# Altium footprint library Archim.PcbLib: 75 footprints (part 3 of 5)
Each footprint in its own frame and in the unit in brackets; x right, y up, seen from the top. Pads: shape width x height; smd on the part's side, far side on the other; paste and mask are expansions set on the pad; w line width, h text height; cw(c..) or ccw(c..) is an arc to the next point about the centre after c.
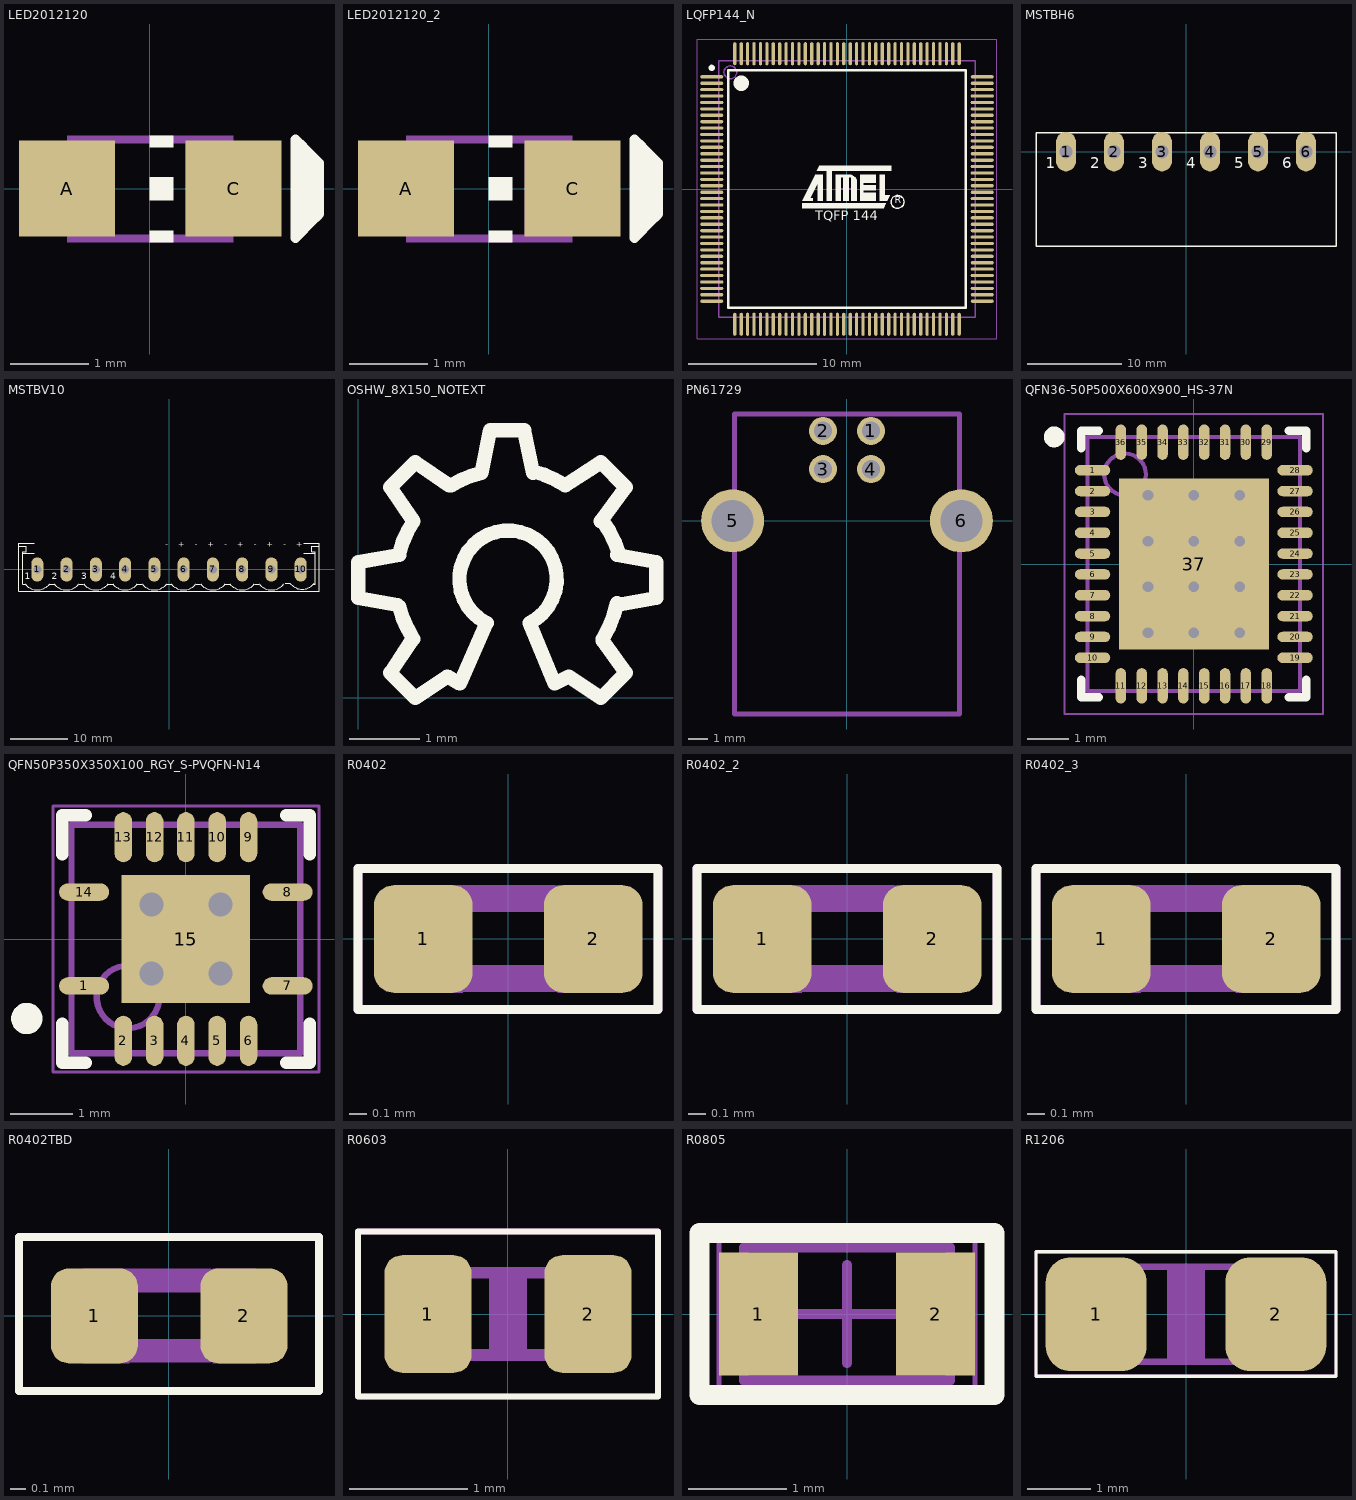
[diagram p2: the footprints below, top view; thin cyan lines are the x and y axes]

## LED2012120 [mil]
pads (2):
  rect 48x48 smd: A(-41.34,0) C(42,0)
Top Overlay:
  region: 0,5.9 0,-6 12,-6 12,5.9
  region: 0,-21 0,-27 12,-27 12,-21
  region: 0,26.57 0,20.67 12,20.67 12,26.57
  lines w5: 72.83,-24.61 80.71,-16.73 ; 72.83,-24.61 76.77,-20.67 76.77,20.67 72.83,24.61 ; 72.83,-24.61 72.83,24.61 ; 72.83,24.61 80.71,16.73 ; 80.71,-16.73 84.65,-12.8 84.65,12.8 80.71,16.73 ; 80.71,-16.73 80.71,16.73
Mechanical 8:
  region: -41.34,26.58 -41.34,-27 -17.72,-27 -17.72,26.57
  region: 18,26.58 18,-27 42,-27 42,26.58
  lines w4: -18.7,-25 18,-25 ; -17.72,24.61 18,24.61
3D body: height 11.81, standoff 0, extent -50,-25 50,25
3D body: height 27.56, standoff 0, extent -30,-25 30,25
3D body: height 15.75, standoff 0, extent 20,-10 35,10

## LED2012120_2 [mil]
pads (2):
  rect 48x48 smd: A(-41.34,0) C(42,0)
Top Overlay:
  region: 0,5.9 0,-6 12,-6 12,5.9
  region: 0,-21 0,-27 12,-27 12,-21
  region: 0,26.57 0,20.67 12,20.67 12,26.57
  lines w5: 72.83,-24.61 80.71,-16.73 ; 72.83,-24.61 76.77,-20.67 76.77,20.67 72.83,24.61 ; 72.83,-24.61 72.83,24.61 ; 72.83,24.61 80.71,16.73 ; 80.71,-16.73 84.65,-12.8 84.65,12.8 80.71,16.73 ; 80.71,-16.73 80.71,16.73
Mechanical 8:
  region: -41.34,26.58 -41.34,-27 -17.72,-27 -17.72,26.57
  region: 18,26.58 18,-27 42,-27 42,26.58
  lines w4: -18.7,-25 18,-25 ; -17.72,24.61 18,24.61
3D body: height 11.81, standoff 0, extent -50,-25 50,25
3D body: height 27.56, standoff 0, extent -30,-25 30,25
3D body: height 15.75, standoff 0, extent 20,-10 35,10

## LQFP144_N [mm] "Thin QFP, 144-Leads, Body 20x20mm, Pitch 0.5mm, IPC Medium Density"
height 1.6
pads (144):
  oval 1.8x0.249 smd: 1(-10.55,8.75) 2(-10.55,8.25) 3(-10.55,7.75) 4(-10.55,7.25) 5(-10.55,6.75) 6(-10.55,6.25) 7(-10.55,5.75) 8(-10.55,5.25) 9(-10.55,4.75) 10(-10.55,4.25) 11(-10.55,3.75) 12(-10.55,3.25) 13(-10.55,2.75) 14(-10.55,2.25) 15(-10.55,1.75) 16(-10.55,1.25) 17(-10.55,0.75) 18(-10.55,0.25) 19(-10.55,-0.25) 20(-10.55,-0.75) 21(-10.55,-1.25) 22(-10.55,-1.75) 23(-10.55,-2.25) 24(-10.55,-2.75) 25(-10.55,-3.25) 26(-10.55,-3.75) 27(-10.55,-4.25) 28(-10.55,-4.75) 29(-10.55,-5.25) 30(-10.55,-5.75) 31(-10.55,-6.25) 32(-10.55,-6.75) 33(-10.55,-7.25) 34(-10.55,-7.75) 35(-10.55,-8.25) 36(-10.55,-8.75) 73(10.55,-8.75) 74(10.55,-8.25) 75(10.55,-7.75) 76(10.55,-7.25) 77(10.55,-6.75) 78(10.55,-6.25) 79(10.55,-5.75) 80(10.55,-5.25) 81(10.55,-4.75) 82(10.55,-4.25) 83(10.55,-3.75) 84(10.55,-3.25) 85(10.55,-2.75) 86(10.55,-2.25) 87(10.55,-1.75) 88(10.55,-1.25) 89(10.55,-0.75) 90(10.55,-0.25) 91(10.55,0.25) 92(10.55,0.75) 93(10.55,1.25) 94(10.55,1.75) 95(10.55,2.25) 96(10.55,2.75) 97(10.55,3.25) 98(10.55,3.75) 99(10.55,4.25) 100(10.55,4.75) 101(10.55,5.25) 102(10.55,5.75) 103(10.55,6.25) 104(10.55,6.75) 105(10.55,7.25) 106(10.55,7.75) 107(10.55,8.25) 108(10.55,8.75)
  oval 0.249x1.8 smd: 37(-8.75,-10.55) 38(-8.25,-10.55) 39(-7.75,-10.55) 40(-7.25,-10.55) 41(-6.75,-10.55) 42(-6.25,-10.55) 43(-5.75,-10.55) 44(-5.25,-10.55) 45(-4.75,-10.55) 46(-4.25,-10.55) 47(-3.75,-10.55) 48(-3.25,-10.55) 49(-2.75,-10.55) 50(-2.25,-10.55) 51(-1.75,-10.55) 52(-1.25,-10.55) 53(-0.75,-10.55) 54(-0.25,-10.55) 55(0.25,-10.55) 56(0.75,-10.55) 57(1.25,-10.55) 58(1.75,-10.55) 59(2.25,-10.55) 60(2.75,-10.55) 61(3.25,-10.55) 62(3.75,-10.55) 63(4.25,-10.55) 64(4.75,-10.55) 65(5.25,-10.55) 66(5.75,-10.55) 67(6.25,-10.55) 68(6.75,-10.55) 69(7.25,-10.55) 70(7.75,-10.55) 71(8.25,-10.55) 72(8.75,-10.55) 109(8.75,10.55) 110(8.25,10.55) 111(7.75,10.55) 112(7.25,10.55) 113(6.75,10.55) 114(6.25,10.55) 115(5.75,10.55) 116(5.25,10.55) 117(4.75,10.55) 118(4.25,10.55) 119(3.75,10.55) 120(3.25,10.55) 121(2.75,10.55) 122(2.25,10.55) 123(1.75,10.55) 124(1.25,10.55) 125(0.75,10.55) 126(0.25,10.55) 127(-0.25,10.55) 128(-0.75,10.55) 129(-1.25,10.55) 130(-1.75,10.55) 131(-2.25,10.55) 132(-2.75,10.55) 133(-3.25,10.55) 134(-3.75,10.55) 135(-4.25,10.55) 136(-4.75,10.55) 137(-5.25,10.55) 138(-5.75,10.55) 139(-6.25,10.55) 140(-6.75,10.55) 141(-7.25,10.55) 142(-7.75,10.55) 143(-8.25,10.55) 144(-8.75,10.55)
Top Overlay:
  circle w0.102: c3.944,-1.006 r0.508
  circle w0.25: c-10.55,9.45 r0.125
  circle w0.6: c-8.25,8.25 r0.3
  region: -3.473,-0.907 -2.473,1.11 -1.873,1.11 -1.873,-0.907 -2.273,-0.907 -2.273,0.5 -2.873,-0.706 -2.673,-0.706 -2.673,-0.907
  region: -2.373,1.415 -2.173,1.796 3.436,1.796 3.436,1.415 -1.173,1.415 -1.173,-0.907 -1.573,-0.907 -1.573,1.415
  region: -0.873,1.11 -0.873,-0.907 -0.473,-0.907 -0.473,0.907 -0.273,0.907 -0.273,-0.907 0.127,-0.907 0.127,0.907 0.327,0.907 0.327,-0.907 0.744,-0.907 0.744,0.703 0.642,0.907 0.54,1.008 0.327,1.11
  region: 1.048,1.11 1.048,-0.907 2.242,-0.907 2.242,-0.307 1.252,-0.307 1.252,-0.084 2.242,-0.084 2.242,0.297 1.252,0.297 1.252,0.5 2.242,0.5 2.242,1.11
  region: 2.547,1.11 2.547,-0.907 3.131,-0.907 3.334,-0.506 2.928,-0.506 2.928,1.11
  region: -3.473,-1.106 -3.473,-1.506 2.852,-1.506 3.03,-1.106
  lines w0.2: -9.25,-9.25 -9.25,9.25 9.25,9.25 9.25,-9.25 -9.25,-9.25
  text "TQFP 144" at -2.473,-2.717 h1.26
  text "R" at 3.741,-1.307 h0.94
Mechanical 13:
  circle w0.1: c-9.1,9.1 r0.5
  lines w0.1: -10,-10 -10,10 10,10 10,-10 -10,-10
Mechanical 15:
  lines w0.05: -11.7,-11.7 -11.7,11.7 11.7,11.7 11.7,-11.7 -11.7,-11.7
  lines w0.1: -0.5,0 0.5,0 ; 0,-0.5 0,0.5
3D body: height 1.6, standoff 0, extent -10,-10 10,10

## MSTBH6 [mil] "Pluggable terminal block-5.08mm pitch - Horizontal"
pads (6):
  oval 82.5x165 hole 55: 1(-500,0) 2(-300,0) 3(-100,0) 4(100,0) 5(300,0) 6(500,0)
Top Overlay:
  lines w6: -625,-393.7 625,-393.7 625,78.74 -625,78.74 -625,-393.7
  text "5" at 200,-85 h77.5
  text "6" at 400,-85 h77.5
  text "4" at 0,-85 h77.5
  text "3" at -200,-85 h77.5
  text "2" at -400,-85 h77.5
  text "1" at -585,-85 h77.5
Mechanical 8:
  lines w6: -525,-25 -475,25 ; -525,-25 -475,-25 ; -525,-25 -525,25 ; -525,25 -475,-25 ; -525,25 -475,25 ; -475,-25 -475,25 ; -325,-25 -275,25 ; -325,-25 -325,25 ; -325,-25 -275,-25 ; -325,25 -275,-25 ; -325,25 -275,25 ; -275,-25 -275,25 ; -125,-25 -75,25 ; -125,-25 -75,-25 ; -125,-25 -125,25 ; -125,25 -75,-25 ; -125,25 -75,25 ; -75,-25 -75,25 ; 75,-25 125,-25 ; 75,-25 125,25 ; 75,-25 75,25 ; 75,25 125,-25 ; 75,25 125,25 ; 125,-25 125,25 ; 125,-25 125,25 ; 275,-25 275,25 ; 275,-25 325,-25 ; 275,-25 325,25 ; 275,25 325,25 ; 275,25 325,-25 ; 325,-25 325,25
3D body: height 326.77, standoff 0, extent -628,-396.7 628,81.74

## MSTBV10 [mil]
pads (10):
  oval 82.5x165 hole 55: 1(-900,0) 2(-700,0) 3(-500,0) 4(-300,0) 5(-100,0) 6(100,0) 7(300,0) 8(500,0) 9(700,0) 10(900,0)
Top Overlay:
  lines w5.98: 920,180 1025,180
  lines w6: -984,-98 ccw(c-900,-35) -900,-140 ccw(c-900,-35) -816,-98 ; -983,-100 -1000,-100 -1000,110 ; -920,110 -1000,110 ; -920,180 -1025,180 -1025,160 ; -815,-100 -785,-100 ; -784,-98 ccw(c-700,-35) -700,-140 ccw(c-700,-35) -616,-98 ; -615,-100 -585,-100 ; -584,-98 ccw(c-500,-35) -500,-140 ccw(c-500,-35) -416,-98 ; -415,-100 -385,-100 ; -384,-98 ccw(c-300,-35) -300,-140 ccw(c-300,-35) -216,-98 ; -217,-100 -200,-100 ; -215,-100 -185,-100 ; -184,-98 ccw(c-100,-35) -100,-140 ccw(c-100,-35) -16,-98 ; -15,-100 15,-100 ; 16,-98 ccw(c100,-35) 100,-140 ccw(c100,-35) 184,-98 ; 185,-100 215,-100 ; 216,-98 ccw(c300,-35) 300,-140 ccw(c300,-35) 384,-98 ; 385,-100 415,-100 ; 416,-98 ccw(c500,-35) 500,-140 ccw(c500,-35) 584,-98 ; 585,-100 615,-100 ; 616,-98 ccw(c700,-35) 700,-140 ccw(c700,-35) 784,-98 ; 795,-95 825,-95 ; 826,-93 ccw(c910,-30) 910,-135 ccw(c910,-30) 994,-93 ; 920,110 1000,110 ; 990,-100 1000,-100 1000,110 ; 1025,180 1025,160 ; -1025,160 -976.38,160 -976.38,120 -1000,120 -1000,110 ; -1025,160 -1025,-150 -175,-150 -70,-150 1025,-150 1025,160 ; 1000,110 1000,120 976.38,120 976.38,160 1025,160
  text "4" at -400,-85 h77.5
  text "3" at -600,-85 h77.5
  text "2" at -800,-85 h77.5
  text "1" at -985,-85 h77.5
  text "+    -    +    -    +    -    +    -    +    -" at 915,185 h40
Mechanical 8:
  lines w6: -925,-25 -875,25 ; -925,-25 -875,-25 ; -925,-25 -925,25 ; -925,25 -875,-25 ; -925,25 -875,25 ; -875,-25 -875,25 ; -725,-25 -675,25 ; -725,-25 -725,25 ; -725,-25 -675,-25 ; -725,25 -675,-25 ; -725,25 -675,25 ; -675,-25 -675,25 ; -525,-25 -475,25 ; -525,-25 -475,-25 ; -525,-25 -525,25 ; -525,25 -475,-25 ; -525,25 -475,25 ; -475,-25 -475,25 ; -325,-25 -275,-25 ; -325,-25 -275,25 ; -325,-25 -325,25 ; -325,25 -275,-25 ; -325,25 -275,25 ; -275,-25 -275,25
3D body: height 472.44, standoff 0, extent -1028,-153 1025,183

## OSHW_8X150_NOTEXT [mm]
height 1.1
Top Overlay:
  lines w0.203: 0.559,1.321 0,1.422 0,1.93 0.584,2.032 ; 0.584,1.295 ccw(c2.098,1.695) 0.787,0.838 ; 0.584,2.057 cw(c2.071,1.67) 0.787,2.515 0.457,2.997 0.813,3.353 1.295,3.023 ; 0.762,0.813 0.457,0.356 0.813,0 1.27,0.305 1.448,0.203 1.829,1.067 cw(c2.134,1.689) 2.438,1.067 2.794,0.203 2.997,0.305 3.454,0 3.81,0.356 3.48,0.813 ; 1.321,3.023 cw(c2.114,1.71) 1.753,3.2 1.88,3.81 2.362,3.81 2.489,3.2 ; 2.489,3.226 cw(c2.069,1.663) 2.946,3.023 3.454,3.353 3.81,2.997 3.454,2.515 ; 3.48,0.838 ccw(c2.12,1.677) 3.683,1.346 ; 3.48,2.515 cw(c2.282,1.63) 3.708,2.057 ; 3.683,1.321 4.242,1.422 4.242,1.93 3.683,2.032
Mechanical 8:
  drawing of 191 lines, arcs and shapes, not listed
3D body: height 0, standoff 0, extent -0.002,0.051 4.267,3.759

## PN61729 [mil]
pads (6):
  round 58 hole 38: 1(50,186) 2(-49.21,186) 3(-49.21,107) 4(50,107)
  round 130.5 hole 87: 5(-236.22,0) 6(237,0)
Mechanical 8:
  lines w10: -232.28,-399.61 -232.28,221 233,221 233,-399.61 -232.28,-399.61
3D body: height 405.51, standoff 27.56, extent -237.28,-404.61 238,226

## QFN36-50P500X600X900_HS-37N [mm] "QFN, 36-Leads, Body 5.00x6.00mm, Pitch 0.50mm, Thermal Pad 3.60x4.10mm, IPC Medium Density"
height 9
pads (41):
  oval 0.85x0.25 smd mask+0.051: 1(-2.43,2.25) 2(-2.43,1.75) 3(-2.43,1.25) 4(-2.43,0.75) 5(-2.43,0.25) 6(-2.43,-0.25) 7(-2.43,-0.75) 8(-2.43,-1.25) 9(-2.43,-1.75) 10(-2.43,-2.25) 19(2.43,-2.25) 20(2.43,-1.75) 21(2.43,-1.25) 22(2.43,-0.75) 23(2.43,-0.25) 24(2.43,0.25) 25(2.43,0.75) 26(2.43,1.25) 27(2.43,1.75) 28(2.43,2.25)
  oval 0.25x0.85 smd mask+0.051: 11(-1.75,-2.925) 12(-1.25,-2.925) 13(-0.75,-2.925) 14(-0.25,-2.925) 15(0.25,-2.925) 16(0.75,-2.925) 17(1.25,-2.925) 18(1.75,-2.925) 29(1.75,2.925) 30(1.25,2.925) 31(0.75,2.925) 32(0.25,2.925) 33(-0.25,2.925) 34(-0.75,2.925) 35(-1.25,2.925) 36(-1.75,2.925)
  rect 3.6x4.1 smd paste-2.159 mask+0.051: 37(0,0)
  rect 1.34x1.57 on Top Paste: ""(-0.821,-0.936) ""(-0.82,0.935) ""(0.82,-0.936) ""(0.82,0.936)
via 0,1.65 diameter 0.559 hole 0.254
via 1.1,1.65 diameter 0.559 hole 0.254
via -1.1,0.55 diameter 0.559 hole 0.254
via 0,0.55 diameter 0.559 hole 0.254
via 1.1,0.55 diameter 0.559 hole 0.254
via -1.1,-0.55 diameter 0.559 hole 0.254
via 0,-0.55 diameter 0.559 hole 0.254
via 1.1,-0.55 diameter 0.559 hole 0.254
via -1.1,-1.65 diameter 0.559 hole 0.254
via 0,-1.65 diameter 0.559 hole 0.254
via 1.1,-1.65 diameter 0.559 hole 0.254
via -1.1,1.65 diameter 0.559 hole 0.254
Top Overlay:
  circle w0.25: c-3.35,3.05 r0.125
  lines w0.2: -2.7,-2.775 -2.7,-3.2 -2.275,-3.2 ; -2.7,2.775 -2.7,3.2 -2.275,3.2 ; 2.275,-3.2 2.7,-3.2 2.7,-2.775 ; 2.275,3.2 2.7,3.2 2.7,2.775
Mechanical 13:
  circle w0.1: c-1.65,2.15 r0.5
  lines w0.1: -2.55,-3.05 -2.55,3.05 2.55,3.05 2.55,-3.05 -2.55,-3.05
Mechanical 15:
  lines w0.05: -3.1,-3.6 -3.1,3.6 3.1,3.6 3.1,-3.6 -3.1,-3.6
  lines w0.1: -0.5,0 0.5,0 ; 0,-0.5 0,0.5
3D body: height 0.9, standoff 0.05, extent -2.55,-3.05 2.55,3.05

## QFN50P350X350X100_RGY_S-PVQFN-N14 [mm] "QFN, 14-Leads, Body 3.50x3.50mm, Pitch 1.50mm/0.50mm, Thermal Pad 2.05x2.05mm, IPC High Density"
height 1
pads (15):
  oval 0.8x0.28 smd: 1(-1.625,-0.75) 7(1.625,-0.75) 8(1.625,0.75) 14(-1.625,0.75)
  oval 0.28x0.8 smd: 2(-1,-1.625) 3(-0.5,-1.625) 4(0,-1.625) 5(0.5,-1.625) 6(1,-1.625) 9(1,1.625) 10(0.5,1.625) 11(0,1.625) 12(-0.5,1.625) 13(-1,1.625)
  rect 2.05x2.05 smd: 15(0,0)
via 0.55,-0.55 diameter 0.711 hole 0.381
via 0.55,0.55 diameter 0.711 hole 0.381
via -0.55,0.55 diameter 0.711 hole 0.381
via -0.55,-0.55 diameter 0.711 hole 0.381
Top Overlay:
  circle w0.25: c-2.54,-1.27 r0.125
  lines w0.2: -1.975,-1.35 -1.975,-1.975 -1.6,-1.975 ; -1.975,1.35 -1.975,1.975 -1.6,1.975 ; 1.6,-1.975 1.975,-1.975 1.975,-1.35 ; 1.6,1.975 1.975,1.975 1.975,1.35
Top Solder:
  rectangle: -1.346,-2.134 1.295,2.134
Mechanical 13:
  circle w0.1: c-0.925,-0.925 r0.5
  lines w0.1: -1.825,-1.825 1.825,-1.825 1.825,1.825 -1.825,1.825 -1.825,-1.825
Mechanical 15:
  lines w0.05: -2.125,-2.125 2.125,-2.125 2.125,2.125 -2.125,2.125 -2.125,-2.125
  lines w0.1: -0.5,0 0.5,0 ; 0,-0.5 0,0.5
3D body: height 1, standoff 0.08, extent -1.825,-1.825 1.825,1.825

## R0402 [mil]
pads (2):
  rrect40% 22x24 smd mask+2: 1(-18.9,0) 2(19,0)
Top Overlay:
  lines w1.97: -33.46,-15.75 33.46,-15.75 33.46,15.75 -33.46,15.75 -33.46,-15.75
Mechanical 8:
  rectangle: -21.81,-12 -10,12
  rectangle: 11,-12 22,12
  lines w6: -9.65,-8.82 10,-8.82 ; -9.65,9 10,9
Mechanical 15:
  lines w2: -33.46,-15.75 33.46,-15.75 33.46,15.75 -33.46,15.75 -33.46,-15.75
3D body: height 13.78, standoff 0, extent -20,-10 20,10

## R0402_2 [mil]
pads (2):
  rrect40% 22x24 smd mask+2: 1(-18.9,0) 2(19,0)
Top Overlay:
  lines w1.97: -33.46,-15.75 -33.46,15.75 33.46,15.75 33.46,-15.75 -33.46,-15.75
Mechanical 8:
  rectangle: 11,-12 22,12
  rectangle: -21.81,-12 -10,12
  lines w6: -9.65,-8.82 10,-8.82 ; -9.65,9 10,9
Mechanical 15:
  lines w2: -33.46,-15.75 -33.46,15.75 33.46,15.75 33.46,-15.75 -33.46,-15.75
3D body: height 13.78, standoff 0, extent -20,-10 20,10

## R0402_3 [mil]
pads (2):
  rrect40% 22x24 smd mask+2: 1(-18.9,0) 2(19,0)
Top Overlay:
  lines w1.97: -33.46,-15.75 -33.46,15.75 33.46,15.75 33.46,-15.75 -33.46,-15.75
Mechanical 8:
  rectangle: 11,-12 22,12
  rectangle: -21.81,-12 -10,12
  lines w6: -9.65,-8.82 10,-8.82 ; -9.65,9 10,9
Mechanical 15:
  lines w2: -33.46,-15.75 -33.46,15.75 33.46,15.75 33.46,-15.75 -33.46,-15.75
3D body: height 13.78, standoff 0, extent -20,-10 20,10

## R0402TBD [mil]
pads (2):
  rrect40% 22x24 smd: 1(-18.9,0) 2(19,0)
Top Overlay:
  lines w2: -37.99,-19.02 38,-19.02 38,20 -37.99,20 -37.99,-19.02
Mechanical 8:
  rectangle: 11,-12 22,12
  rectangle: -21.81,-12 -10,12
  lines w6: -9.65,-8.82 10,-8.82 ; -9.65,9 10,9
Mechanical 15:
  lines w2: -37.99,-19.02 -37.99,20 38,20 38,-19.02 -37.99,-19.02
3D body: height 13.78, standoff 0, extent -20,-10 20,10

## R0603 [mm]
pads (2):
  rrect40% 0.74x1 smd: 1(-0.68,0) 2(0.68,0)
Top Overlay:
  lines w0.051: -1.275,-0.7 -1.275,0.7 1.275,0.7 1.275,-0.7 -1.275,-0.7
Mechanical 6:
  rectangle: -0.16,-0.3 0.16,0.3
Mechanical 8:
  rectangle: -0.8,-0.4 -0.45,0.4
  rectangle: 0.45,-0.4 0.8,0.4
  lines w0.1: -0.45,0.35 0.45,0.35
  lines w0.102: -0.45,-0.35 0.45,-0.35
Mechanical 15:
  lines w0.051: -1.275,-0.7 1.275,-0.7 1.275,0.7 -1.275,0.7 -1.275,-0.7
3D body: height 0.8, standoff 0, extent -0.8,-0.4 0.8,0.4

## R0805 [mm]
height 0.6
pads (2):
  rect 0.8x1.25 smd mask+0.051: 1(-0.9,0) 2(0.9,0)
Top Overlay:
  lines w0.203: -1.5,-0.825 1.5,-0.825 1.5,0.825 -1.5,0.825 -1.5,-0.825
Mechanical 13:
  lines w0.1: -1.05,-0.675 1.05,-0.675 1.05,0.675 -1.05,0.675 -1.05,-0.675
Mechanical 15:
  lines w0.05: -1.3,-0.8 1.3,-0.8 1.3,0.8 -1.3,0.8 -1.3,-0.8
  lines w0.1: -0.5,0 0.5,0 ; 0,-0.5 0,0.5
3D body "R0805.step": height 0.6, standoff 0, extent -1.05,-0.675 1.05,0.675

## R1206 [mil]
pads (2):
  rrect50% 63x71 smd: 1(-55.98,0) 2(56,0)
Top Overlay:
  lines w2: -93.5,-38.7 -93.5,39 93.5,39 93.5,-38.7 -93.5,-38.7
Mechanical 6:
  rectangle: -11.82,-27.56 11.99,28
Mechanical 8:
  rectangle: -61.06,-31.49 -32.06,31.5
  rectangle: 31.99,-31.49 60.99,31.5
  lines w3.94: -40.35,29.53 35.65,29.53 ; -34.66,-29.53 41.34,-29.53
Mechanical 15:
  lines w2: -93.5,-38.7 93.5,-38.7 93.5,39 -93.5,39 -93.5,-38.7
3D body: height 23.62, standoff 0, extent -61.02,-31.5 61.02,31.5